# Altium schematic symbol library Connectors-1.SchLib: 13 symbols
Pins are listed as number, name and electrical type; pins without a type are passive.

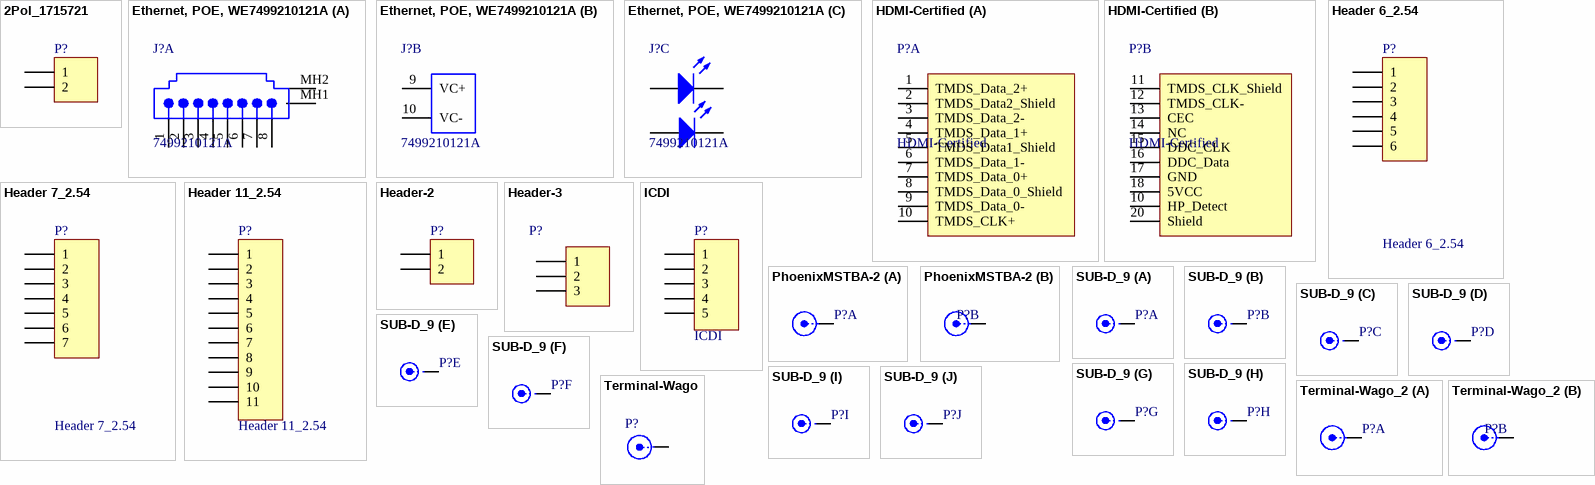
[diagram p0: symbols 2Pol_1715721 to Terminal-Wago_2]

## 2Pol_1715721
designator P?, comment PHOENIX_1715721  (value not drawn)
Phoenix, 2 pol, 5.08mm, 22A, 715721; Deliverer PartNr: 3041529; Deliverer: Farnell; TDE-PN: CON0008; LatestRevisionDate: 02.05.2014; LatestRevisionNote: Re-released for DXP Platform.; Publisher: Sebastian Kulik; Manufacturer PartNr: 1715721; Manufacturer: Phoenix
signal-integrity model Connector
footprint Phoenix-2-5_08 (Phoenix, 1715721)
pins: 1, 2

## Ethernet, POE, WE7499210121A
designator J?, comment 7499210121A
Modular Jack , Right Angle RJ-45, Low Profile; Deliverer PartNr: 1636396; Manufacturer: Wuerth Elektronik; Ports: 1; PCB_Mounting: Thru-Hole; Deliverer: Farnell; TDE-PN: CON0005; PackageReference: 7499210121A; Publisher: Sebastian Kulik; Manufacturer PartNr: 7499210121A
footprint 7499210121A (Connector; PCB Jack, Thru-Hole; RJ45,POE; Shielded with Lightpipes; Right Angle)
signal-integrity model Modular Jack
part A pins: 1, 2, 3, 4, 5, 6, 7, 8, MH1 Shield, MH2 Shield
part B pins: 9 VC+, 10 VC-
part C pins: 11 A, 12 K, 13 A, 14 K

## HDMI-Certified
designator P?
Molex, HDMI; Deliverer PartNr: 1654540; Manufacturer PartNr: 47151-0001; PCB_Mounting: SMT; Deliverer: Farnell; TDE-PN: CON0002; PackageReference: 47151-0001; Publisher: Sebastian Kulik; Manufacturer: Molex
footprint HDMI-Certified (Molex,47151-0001)
signal-integrity model Modular Jack
part A pins: 1 TMDS_Data_2+, 2 TMDS_Data2_Shield, 3 TMDS_Data_2-, 4 TMDS_Data_1+, 5 TMDS_Data1_Shield, 6 TMDS_Data_1-, 7 TMDS_Data_0+, 8 TMDS_Data_0_Shield, 9 TMDS_Data_0-, 10 TMDS_CLK+
part B pins: 10 HP_Detect, 11 TMDS_CLK_Shield, 12 TMDS_CLK-, 13 CEC, 14 NC, 15 DDC_CLK, 16 DDC_Data, 17 GND, 18 5VCC, 20 Shield

## Header 6_2.54
designator P?
Header, 6-Pin; LatestRevisionDate: 17-Jul-2002; LatestRevisionNote: Re-released for DXP Platform.; Publisher: Altium Limited
signal-integrity model Connector
footprint HDR1X6_2.54 (Connector; Header; 6 Position)
pins: 1, 2, 3, 4, 5, 6

## Header 7_2.54
designator P?
Header, 7-Pin; LatestRevisionDate: 17-Jul-2002; LatestRevisionNote: Re-released for DXP Platform.; Publisher: Altium Limited
footprint HDR1X7_2.54 (Connector; Header; 7 Position)
signal-integrity model Connector
pins: 1, 2, 3, 4, 5, 6, 7

## Header 11_2.54
designator P?
Header, 11-Pin; LatestRevisionDate: 17-Jul-2002; LatestRevisionNote: Re-released for DXP Platform.; Publisher: Altium Limited
footprint HDR1X11_2.54 (Connector; Header; 11 Position)
signal-integrity model Connector
footprint HDR1X11_2.54_SMD (Connector; Header; 11 Position)
footprint HDR1X11_2.54-DOWN (Connector; Header; 11 Position)
pins: 1, 2, 3, 4, 5, 6, 7, 8, 9, 10, 11

## Header-2
designator P?  (value not drawn)
Header, 2-Pin; LatestRevisionDate: 18.02.2014; LatestRevisionNote: Re-released for DXP Platform.; Publisher: Sebastian Kulik
footprint HDR1X2 (Connector; Header; 2 Position)
signal-integrity model Connector
footprint HDR1X2-SMD (Connector; Header; 2 Position)
footprint HDR1X2-down (Connector; Header; 2 Position)
pins: 1, 2

## Header-3
designator P?  (value not drawn)
Header-3-Pin; Publisher: Sebastian Kulik
footprint HDR1X3 (Connector; Header; 3 Position)
footprint HDR1X3-SMD (Connector; Header; 3 Position)
footprint HDR1X3-DOWN (Connector; Header; 3 Position)
pins: 1, 2, 3

## ICDI
designator P?
Header, 5-Pin; LatestRevisionDate: 17-Jul-2002; LatestRevisionNote: Re-released for DXP Platform.; Publisher: Sebastian Kulik
footprint HDR1X5-1.27 (Connector; Header; 5 Position)
signal-integrity model Connector
pins: 1, 2, 3, 4, 5

## PhoenixMSTBA-2
designator P?  (value not drawn)
Deliverer PartNr: 2315182; Manufacturer PartNr: MSTBA 2,5/ 2-G-5,08-LR; Manufacturer: Phoenix Contact; Deliverer: Farnell; TDE-PN: CON0006; LatestRevisionDate: 13.03.2014; LatestRevisionNote: Re-released for DXP Platform.; Publisher: Sebastian Kulik
footprint MSTBA 2,5_2-G-5,08-LR
signal-integrity model Connector
part A pins: 1 X
part B pins: 2 Y

## SUB-D_9
designator P?  (value not drawn)
Deliverer PartNr: 8391246; Manufacturer PartNr: 1-1634580-2; Manufacturer: AMP; Deliverer: Farnell; TDE-PN: CON0007; LatestRevisionDate: 14.03.2014; LatestRevisionNote: Re-released for DXP Platform.; Publisher: Sebastian Kulik
footprint M09HP
signal-integrity model Connector
part A pins: 1
part B pins: 2
part C pins: 3
part D pins: 4
part E pins: 5
part F pins: 6
part G pins: 7
part H pins: 8
part I pins: 9
part J pins: 10 GND

## Terminal-Wago
designator P?  (value not drawn)
Wago terminal; LatestRevisionDate: 17-Jul-2002; LatestRevisionNote: Re-released for DXP Platform.; Publisher: Altium Limited
footprint WAGO-243-211
signal-integrity model Connector
pins: 1 X

## Terminal-Wago_2
designator P?  (value not drawn)
Wago terminal-2; LatestRevisionDate: 17-Jul-2002; LatestRevisionNote: Re-released for DXP Platform.; Publisher: Altium Limited
footprint WAGO-243-211
signal-integrity model Connector
part A pins: 1 X
part B pins: 2 Y